# EAGLE library part SD-CARD(19-PINS) (library modules)
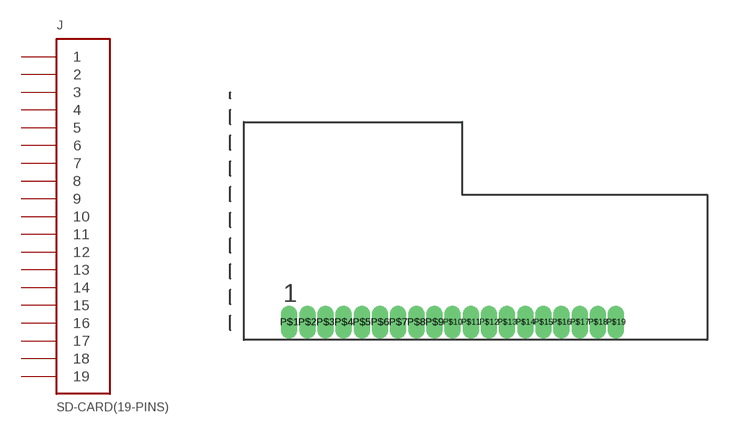
[diagram p12: symbol with the pads of SD-CARD(19-PINS); footprint SD-CARD(19-PINS)]

Designator prefix J

## SD-CARD(19-PINS)  [SD-CARD(19-PINS)]
P$1  1
P$2  2
P$3  3
P$4  4
P$5  5
P$6  6
P$7  7
P$8  8
P$9  9
P$10  10
P$11  11
P$12  12
P$13  13
P$14  14
P$15  15
P$16  16
P$17  17
P$18  18
P$19  19

## Footprint SD-CARD(19-PINS) (pad centres in mm)
drill 0.66 pad 1.016 long: P$1 -10.175,-5.1; P$2 -8.905,-5.1; P$3 -7.635,-5.1; P$4 -6.365,-5.1; P$5 -5.095,-5.1; P$6 -3.825,-5.1; P$7 -2.555,-5.1; P$8 -1.285,-5.1; P$9 -0.015,-5.1; P$10 1.255,-5.1; P$11 2.525,-5.1; P$12 3.795,-5.1; P$13 5.065,-5.1; P$14 6.335,-5.1; P$15 7.605,-5.1; P$16 8.875,-5.1; P$17 10.145,-5.1; P$18 11.415,-5.1; P$19 12.685,-5.1